# EAGLE library part AVIP-CHIHIRO-NOSHIELD (library XBOX)
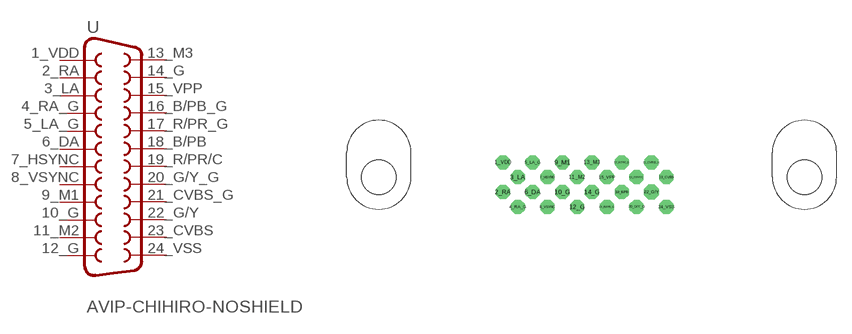
[diagram p5: symbol with the pads of AVIP-CHIHIRO-NOSHIELD; footprint AVIP-CHIHIRO-NOSHIELD]

Designator prefix -

## AVIP-CHIHIRO-NOSHIELD  [AVIP-CHIHIRO-NOSHIELD]
1_VDD  1_VDD  pwr
2_RA  2_RA  pas
3_LA  3_LA  pas
4_RA_G  4_RA_G  pas
5_LA_G  5_LA_G  pas
6_DA  6_DA  pas
7_HSYNC  7_VSYNC  pas
8_VSYNC  8_VSYNC  pas
9_M1  9_M1  pas
10_G  10_G  pas
11_M2  11_M2  pas
12_G  12_G  pas
13_M3  13_M3  pas
14_G  14_G  pas
15_VPP  15_VPP  pas
16_B/PB_G  16_B/PB_G  pas
17_R/PR_G  17_R/PR_G  pas
18_B/PB  18_B/PB  pas
19_R/PR/C  19_R/PR/C  pas
20_G/Y_G  20_G/Y_G  pas
21_CVBS_G  21_CVBS_G  pas
22_G/Y  22_G/Y  pas
23_CVBS  23_CVBS  pas
24_VSS  24_VSS  pas

## Footprint AVIP-CHIHIRO-NOSHIELD (pad centres in mm)
drill 0.9 octagon: 1_VDD -28.5,4.5; 2_RA -28.5,1.5; 3_LA -27,3; 4_RA_G -27,0; 5_LA_G -25.5,4.5; 6_DA -25.5,1.5; 7_HSYNC -24,3; 8_VSYNC -24,0; 9_M1 -22.5,4.5; 10_G -22.5,1.5; 11_M2 -21,3; 12_G -21,0; 13_M3 -19.5,4.5; 14_G -19.5,1.5; 15_VPP -18,3; 16_B/PB_G -18,0; 17_R/PR_G -16.5,4.5; 18_B/PB -16.5,1.5; 19_R/PR/C -15,3; 20_G/Y_G -15,0; 21_CVBS_G -13.5,4.5; 23_CVBS -12,3; 24_VSS -12,0
drill 1 octagon: 22_G/Y -13.5,1.5
hole 3.5 at -41.035,3.01
hole 3.5 at 1.965,3.01